# EAGLE library part CONN-6PIN (library SLIM)
PIN HEADER
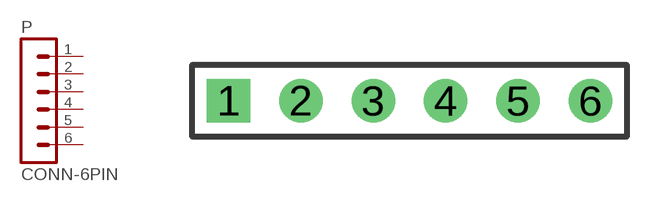
[diagram p2: symbol with the pads of CONN-6PIN; footprint CONN-6PIN]

Designator prefix P

## CONN-6PIN (OC_FARNELL: unknown; OC_NEWARK: unknown)  [CONN-6PIN]
1  1  pas
2  2  pas
3  3  pas
4  4  pas
5  5  pas
6  6  pas

## Footprint CONN-6PIN (pad centres in mm)
PIN HEADER
drill 1.016 square: 1 -6.35,0
drill 1.016: 2 -3.81,0; 3 -1.27,0; 4 1.27,0; 5 3.81,0; 6 6.35,0